# Altium footprint library 多功能数字电表.PcbLib: 17 footprints (part 1 of 2)
Each footprint in its own frame and in the unit in brackets; x right, y up, seen from the top. Pads: shape width x height; smd on the part's side, far side on the other; paste and mask are expansions set on the pad; w line width, h text height; cw(c..) or ccw(c..) is an arc to the next point about the centre after c.
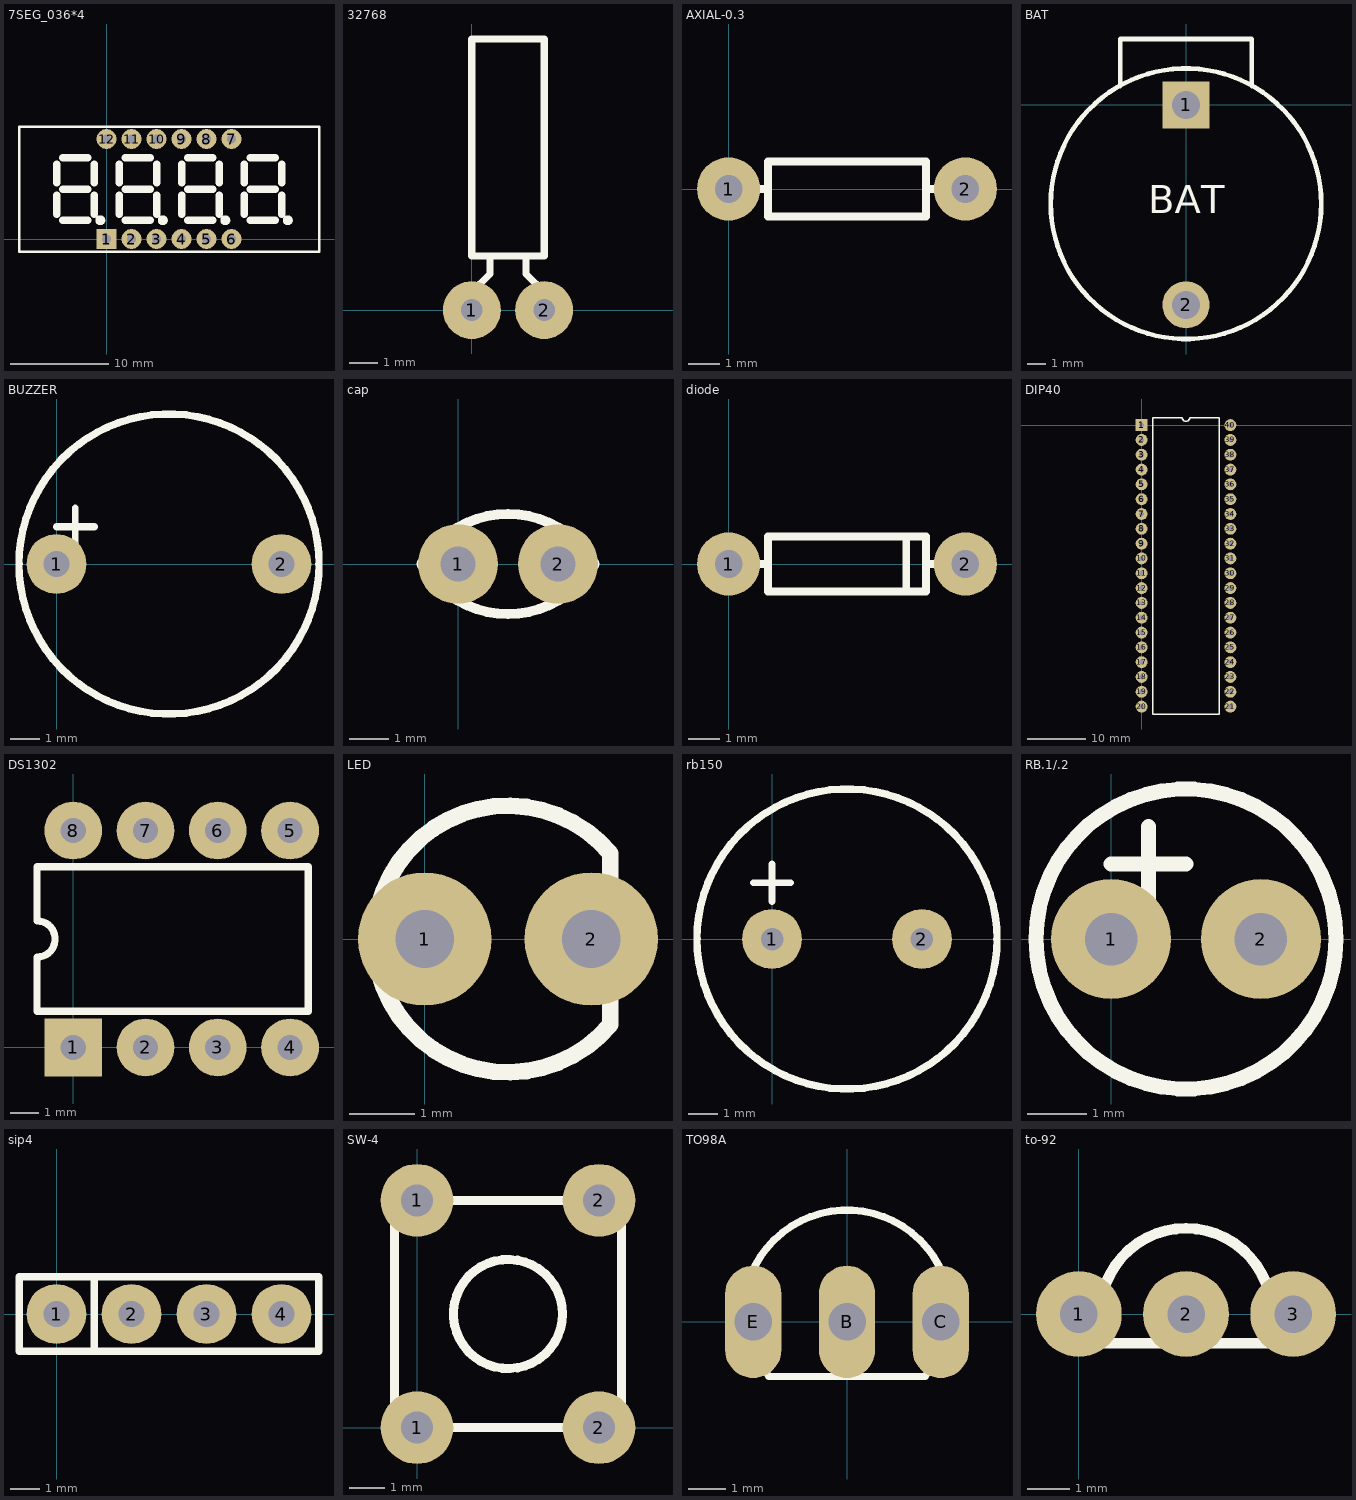
[diagram p0: the footprints below, top view; thin cyan lines are the x and y axes]

## 7SEG_036*4 [mil]
pads (12):
  rect 80x80 hole 35: 1(0,0)
  round 80 hole 35: 2(100,0) 3(200,0) 4(300,0) 5(400,0) 6(500,0) 7(500,400) 8(400,400) 9(300,400) 10(200,400) 11(100,400) 12(0,400)
Top Overlay:
  circle w20: c-25,75 r10
  circle w20: c225,75 r10
  circle w20: c475,75 r10
  circle w20: c725,75 r10
  lines w10: -350,-50 850,-50 850,450 -350,450 -350,-50
  lines w30: -200,100 -200,175 ; -200,225 -200,300 ; -175,75 -75,75 ; -175,200 -75,200 ; -175,325 -75,325 ; -50,100 -50,175 ; -50,225 -50,300 ; 50,100 50,175 ; 50,225 50,300 ; 75,75 175,75 ; 75,200 175,200 ; 75,325 175,325 ; 200,100 200,175 ; 200,225 200,300 ; 300,100 300,175 ; 300,225 300,300 ; 325,75 425,75 ; 325,200 425,200 ; 325,325 425,325 ; 450,100 450,175 ; 450,225 450,300 ; 550,100 550,175 ; 550,225 550,300 ; 575,75 675,75 ; 575,200 675,200 ; 575,325 675,325 ; 700,100 700,175 ; 700,225 700,300

## 32768 [mil]
pads (2):
  round 80 hole 30: 1(0,0) 2(100,0)
Top Overlay:
  lines w10: 0,0 0,25 25,50 25,75 ; 75,75 75,50 100,25 100,0 ; 0,75 0,375 100,375 100,75 0,75

## AXIAL-0.3 [mil]
pads (2):
  round 80 hole 35: 1(0,0) 2(300,0)
Top Overlay:
  lines w10: 0,0 50,0 ; 250,0 300,0 ; 50,-35 250,-35 250,35 50,35 50,-35

## BAT [mil]
pads (2):
  rect 100x100 hole 60: 1(0,0)
  round 100 hole 60: 2(0,-425)
Top Overlay:
  circle w10: c0,-210 r287.5
  lines w10: -140,40 -140,140 140,140 140,40
  text "BAT" at -80,-230 h60

## BUZZER [mil]
pads (2):
  round 80 hole 35: 1(0,0) 2(300,0)
Top Overlay:
  circle w10: c150,0 r200
  lines w9: 25,25 25,75
  lines w10: 0,50 50,50

## cap [mil]
pads (2):
  round 80 hole 35: 1(0,0) 2(100,0)
Top Overlay:
  lines w10: -36.6,0 ccw(c50,50) 136.6,0 ccw(c50,-50) -36.6,0

## diode [mil]
pads (2):
  round 80 hole 35: 1(0,0) 2(300,0)
Top Overlay:
  lines w10: 0,0 50,0 ; 225,-35 225,35 ; 250,0 300,0 ; 50,-35 50,35 250,35 250,-35 50,-35

## DIP40 [mil]
pads (40):
  rect 80x80 hole 35: 1(0,0)
  round 80 hole 35: 2(0,-100) 3(0,-200) 4(0,-300) 5(0,-400) 6(0,-500) 7(0,-600) 8(0,-700) 9(0,-800) 10(0,-900) 11(0,-1000) 12(0,-1100) 13(0,-1200) 14(0,-1300) 15(0,-1400) 16(0,-1500) 17(0,-1600) 18(0,-1700) 19(0,-1800) 20(0,-1900) 21(600,-1900) 22(600,-1800) 23(600,-1700) 24(600,-1600) 25(600,-1500) 26(600,-1400) 27(600,-1300) 28(600,-1200) 29(600,-1100) 30(600,-1000) 31(600,-900) 32(600,-800) 33(600,-700) 34(600,-600) 35(600,-500) 36(600,-400) 37(600,-300) 38(600,-200) 39(600,-100) 40(600,0)
Top Overlay:
  lines w10: 75,-1950 75,50 275,50 ccw(c300,50) 325,50 525,50 525,-1950 75,-1950

## DS1302 [mil]
pads (8):
  rect 80x80 hole 35: 1(0,0)
  round 80 hole 35: 2(100,0) 3(200,0) 4(300,0) 5(300,300) 6(200,300) 7(100,300) 8(0,300)
Top Overlay:
  lines w10: -50,50 -50,125 ccw(c-50,150) -50,175 -50,250 325,250 325,50 -50,50

## LED [mil]
pads (2):
  round 80 hole 35: 1(0,0) 2(100,0)
Top Overlay:
  lines w10: 111.28,-51.42 cw(c50,0) 111.28,51.42 111.28,-51.42

## rb150 [mil]
pads (2):
  round 80 hole 30: 1(0,0) 2(200,0)
Top Overlay:
  circle w10: c100,0 r200
  lines w9: -25,75 25,75 ; 0,50 0,100

## RB.1/.2 [mil]
pads (2):
  round 80 hole 35: 1(0,0) 2(100,0)
Top Overlay:
  circle w10: c50,0 r100
  lines w10: 0,50 50,50 ; 25,25 25,75

## sip4 [mil]
pads (4):
  round 80 hole 35: 1(0,0) 2(100,0) 3(200,0) 4(300,0)
Top Overlay:
  lines w10: 50,-50 50,50 -50,50 ; -50,50 -50,-50 350,-50 350,50 -50,50

## SW-4 [mil]
pads (4):
  round 80 hole 35: 1(0,0) 1(0,250) 2(200,0) 2(200,250)
Top Overlay:
  circle w10: c100,125 r60
  lines w10: -25,25 -25,250 225,250 225,0 0,0 -25,25

## TO98A [mil]
pads (3):
  oval 60x120 hole 40: B(0,0) C(100,0) E(-100,0)
Top Overlay:
  lines w7.87: -102.76,49.85 cw(c0,8.33) 102.76,49.85 ; -89.08,-49.71 -83.33,-58.33 83.33,-58.33 89.08,-49.71

## to-92 [mil]
pads (3):
  round 80 hole 35: 1(0,0) 2(100,0) 3(200,0)
Top Overlay:
  lines w10: 24.82,-27.36 cw(c100,0) 175.18,-27.36 24.82,-27.36